# EAGLE library part 770178 (library con-tyco)
MALE CONNECTOR Mini-Universal MATE-N-LOK
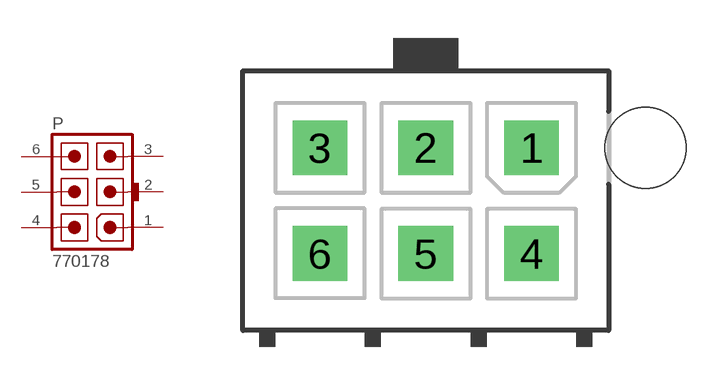
[diagram p13: symbol with the pads of 770178; footprint 770178]

Designator prefix P

## 770178  [770178]
1  1  pas
2  2  pas
3  3  pas
4  4  pas
5  5  pas
6  6  pas

## Footprint 770178 (pad centres in mm)
MALE CONNECTOR Mini-Universal MATE-N-LOK
drill 1.422 square: 1 4.14,2.07; 2 0,2.07; 3 -4.14,2.07; 4 4.14,-2.07; 5 0,-2.07; 6 -4.14,-2.07
hole 3.175 at 8.59,2.07